# Altium integrated library Wireless.IntLib: 3 symbols
Pins are listed as number, name and electrical type; pins without a type are passive.

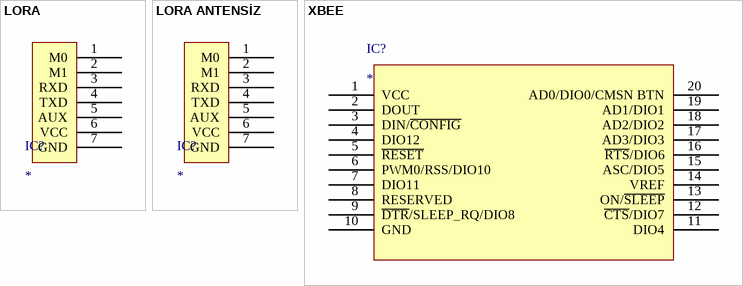
[diagram p0: symbols LORA to XBEE]

## LORA
designator IC?
footprint LORA
pins: 1 M0, 2 M1, 3 RXD, 4 TXD, 5 AUX, 6 VCC, 7 GND

## LORA ANTENSİZ
designator IC?
footprint LORA ANTENSİZ
pins: 1 M0, 2 M1, 3 RXD, 4 TXD, 5 AUX, 6 VCC, 7 GND

## XBEE
designator IC?
footprint XBee
pins: 1 VCC, 2 DOUT, 3 DIN/~{CONFIG}, 4 DIO12, 5 ~{RESET}, 6 PWM0/RSS/DIO10, 7 DIO11, 8 RESERVED, 9 ~{DTR}/SLEEP_RQ/DIO8, 10 GND, 11 DIO4, 12 ~{CTS}/DIO7, 13 ON/~{SLEEP}, 14 VREF, 15 ASC/DIO5, 16 ~{RTS}/DIO6, 17 AD3/DIO3, 18 AD2/DIO2, 19 AD1/DIO1, 20 AD0/DIO0/CMSN BTN